# Altium integrated library Vishay Sprague Tantalum Radial-Lead Capacitor.IntLib: 103 symbols (part 1 of 2)
Pins are listed as number, name and electrical type; pins without a type are passive.

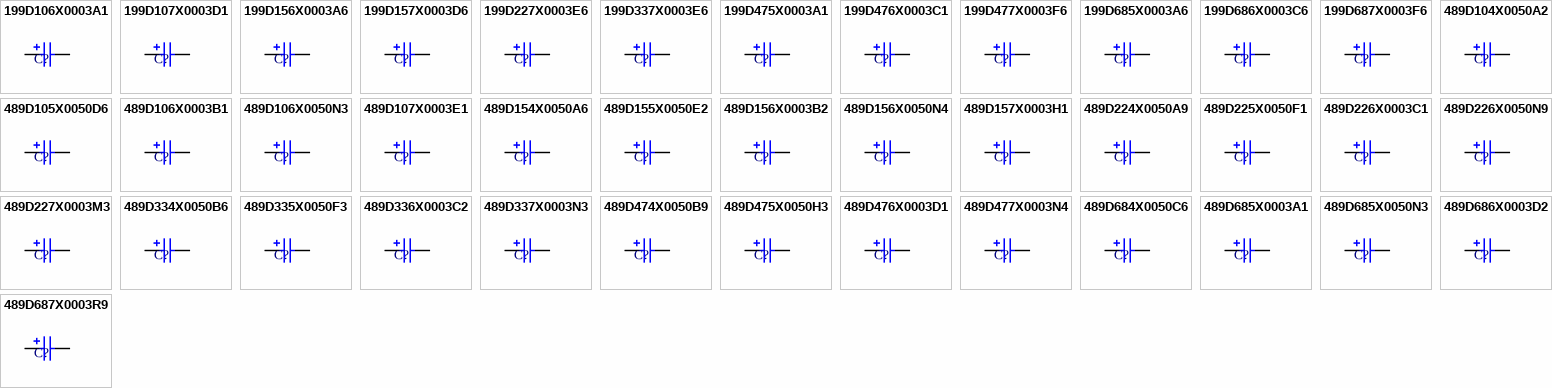
[diagram p0: symbols 199D106X0003A1 to 489D687X0003R9]

## 199D106X0003A1
designator C?
Resin-Coated, Radial-Lead, Solid-Electrolyte Tantalex Capacitor: 10uF, 20% Tolerance, 3 WVDC @ +85°C, SURGE = 3.6V; Note: See Data Sheet for full range of components; Published: 19-Mar-2004; DatasheetDocument: 21-Mar-2002; PackageReference: 199D-A1; Publisher: Altium Limited; ComponentLink1Description: Manufacturer Link; ComponentLink1URL: http://www.vishay.com/; ComponentLink2Description: Datasheet; ComponentLink2URL: http://www.vishay.com/docs/40020/199d.pdf; Value: 10uF
footprint 199D-A1 (Capacitor, Tantalum Bead; Body 4.4 x 7.11 mm (Dia.xH max); Pin Spacing 2.5 mm (typ))
simulation model CAP (Capacitor)
signal-integrity model 199D106X0003A1
pins: 1, 2
1 alternate drawing of the same symbol

## 199D107X0003D1
designator C?
Resin-Coated, Radial-Lead, Solid-Electrolyte Tantalex Capacitor: 100uF, 20% Tolerance, 3 WVDC @ +85°C, SURGE = 3.6V; Note: See Data Sheet for full range of components; Published: 19-Mar-2004; DatasheetDocument: 21-Mar-2002; PackageReference: 199D-D1; Publisher: Altium Limited; ComponentLink1Description: Manufacturer Link; ComponentLink1URL: http://www.vishay.com/; ComponentLink2Description: Datasheet; ComponentLink2URL: http://www.vishay.com/docs/40020/199d.pdf; Value: 100uF
footprint 199D-D1 (Capacitor, Tantalum Bead; Body 6 x 10.16 mm (Dia.xH max); Pin Spacing 2.5 mm (typ))
simulation model CAP (Capacitor)
signal-integrity model 199D107X0003D1
pins: 1, 2
1 alternate drawing of the same symbol

## 199D156X0003A6
designator C?
Resin-Coated, Radial-Lead, Solid-Electrolyte Tantalex Capacitor: 15uF, 20% Tolerance, 3 WVDC @ +85°C, SURGE = 3.6V; Note: See Data Sheet for full range of components; Published: 19-Mar-2004; DatasheetDocument: 21-Mar-2002; PackageReference: 199D-A6; Publisher: Altium Limited; ComponentLink1Description: Manufacturer Link; ComponentLink1URL: http://www.vishay.com/; ComponentLink2Description: Datasheet; ComponentLink2URL: http://www.vishay.com/docs/40020/199d.pdf; Value: 15uF
footprint 199D-A6 (Capacitor, Tantalum Bead; Body 4.4 x 8.64 mm (Dia.xH max); Pin Spacing 5.1 mm (typ))
simulation model CAP (Capacitor)
signal-integrity model 199D156X0003A6
pins: 1, 2
1 alternate drawing of the same symbol

## 199D157X0003D6
designator C?
Resin-Coated, Radial-Lead, Solid-Electrolyte Tantalex Capacitor: 150uF, 20% Tolerance, 3 WVDC @ +85°C, SURGE = 3.6V; Note: See Data Sheet for full range of components; Published: 19-Mar-2004; DatasheetDocument: 21-Mar-2002; PackageReference: 199D-D6; Publisher: Altium Limited; ComponentLink1Description: Manufacturer Link; ComponentLink1URL: http://www.vishay.com/; ComponentLink2Description: Datasheet; ComponentLink2URL: http://www.vishay.com/docs/40020/199d.pdf; Value: 150uF
footprint 199D-D6 (Capacitor, Tantalum Bead; Body 6 x 11.68 mm (Dia.xH max); Pin Spacing 5.1 mm (typ))
simulation model CAP (Capacitor)
signal-integrity model 199D157X0003D6
pins: 1, 2
1 alternate drawing of the same symbol

## 199D227X0003E6
designator C?
Resin-Coated, Radial-Lead, Solid-Electrolyte Tantalex Capacitor: 220uF, 20% Tolerance, 3 WVDC @ +85°C, SURGE = 3.6V; Note: See Data Sheet for full range of components; Published: 19-Mar-2004; DatasheetDocument: 21-Mar-2002; PackageReference: 199D-E6; Publisher: Altium Limited; ComponentLink1Description: Manufacturer Link; ComponentLink1URL: http://www.vishay.com/; ComponentLink2Description: Datasheet; ComponentLink2URL: http://www.vishay.com/docs/40020/199d.pdf; Value: 220uF
footprint 199D-E6 (Capacitor, Tantalum Bead; Body 8.6 x 14.02 mm (Dia.xH max); Pin Spacing 5.1 mm (typ))
simulation model CAP (Capacitor)
signal-integrity model 199D227X0003E6
pins: 1, 2
1 alternate drawing of the same symbol

## 199D337X0003E6
designator C?
Resin-Coated, Radial-Lead, Solid-Electrolyte Tantalex Capacitor: 330uF, 20% Tolerance, 3 WVDC @ +85°C, SURGE = 3.6V; Note: See Data Sheet for full range of components; Published: 19-Mar-2004; DatasheetDocument: 21-Mar-2002; PackageReference: 199D-E6; Publisher: Altium Limited; ComponentLink1Description: Manufacturer Link; ComponentLink1URL: http://www.vishay.com/; ComponentLink2Description: Datasheet; ComponentLink2URL: http://www.vishay.com/docs/40020/199d.pdf; Value: 330uF
footprint 199D-E6 (Capacitor, Tantalum Bead; Body 8.6 x 14.02 mm (Dia.xH max); Pin Spacing 5.1 mm (typ))
simulation model CAP (Capacitor)
signal-integrity model 199D337X0003E6
pins: 1, 2
1 alternate drawing of the same symbol

## 199D475X0003A1
designator C?
Resin-Coated, Radial-Lead, Solid-Electrolyte Tantalex Capacitor: 4.7uF, 20% Tolerance, 3 WVDC @ +85°C, SURGE = 3.6V; Note: See Data Sheet for full range of components; Published: 19-Mar-2004; DatasheetDocument: 21-Mar-2002; PackageReference: 199D-A1; Publisher: Altium Limited; ComponentLink1Description: Manufacturer Link; ComponentLink1URL: http://www.vishay.com/; ComponentLink2Description: Datasheet; ComponentLink2URL: http://www.vishay.com/docs/40020/199d.pdf; Value: 4.7uF
footprint 199D-A1 (Capacitor, Tantalum Bead; Body 4.4 x 7.11 mm (Dia.xH max); Pin Spacing 2.5 mm (typ))
simulation model CAP (Capacitor)
signal-integrity model 199D475X0003A1
pins: 1, 2
1 alternate drawing of the same symbol

## 199D476X0003C1
designator C?
Resin-Coated, Radial-Lead, Solid-Electrolyte Tantalex Capacitor: 47uF, 20% Tolerance, 3 WVDC @ +85°C, SURGE = 3.6V; Note: See Data Sheet for full range of components; Published: 19-Mar-2004; DatasheetDocument: 21-Mar-2002; PackageReference: 199D-C1; Publisher: Altium Limited; ComponentLink1Description: Manufacturer Link; ComponentLink1URL: http://www.vishay.com/; ComponentLink2Description: Datasheet; ComponentLink2URL: http://www.vishay.com/docs/40020/199d.pdf; Value: 47uF
footprint 199D-C1 (Capacitor, Tantalum Bead; Body 5.5 x 9.14 mm (Dia.xH max); Pin Spacing 2.5 mm (typ))
simulation model CAP (Capacitor)
signal-integrity model 199D476X0003C1
pins: 1, 2
1 alternate drawing of the same symbol

## 199D477X0003F6
designator C?
Resin-Coated, Radial-Lead, Solid-Electrolyte Tantalex Capacitor: 470uF, 20% Tolerance, 3 WVDC @ +85°C, SURGE = 3.6V; Note: See Data Sheet for full range of components; Published: 19-Mar-2004; DatasheetDocument: 21-Mar-2002; PackageReference: 199D-F6; Publisher: Altium Limited; ComponentLink1Description: Manufacturer Link; ComponentLink1URL: http://www.vishay.com/; ComponentLink2Description: Datasheet; ComponentLink2URL: http://www.vishay.com/docs/40020/199d.pdf; Value: 470uF
footprint 199D-F6 (Capacitor, Tantalum Bead; Body 9.6 x 18.03 mm (Dia.xH max); Pin Spacing 5.1 mm (typ))
simulation model CAP (Capacitor)
signal-integrity model 199D477X0003F6
pins: 1, 2
1 alternate drawing of the same symbol

## 199D685X0003A6
designator C?
Resin-Coated, Radial-Lead, Solid-Electrolyte Tantalex Capacitor: 6.8uF, 20% Tolerance, 3 WVDC @ +85°C, SURGE = 3.6V; Note: See Data Sheet for full range of components; Published: 19-Mar-2004; DatasheetDocument: 21-Mar-2002; PackageReference: 199D-A6; Publisher: Altium Limited; ComponentLink1Description: Manufacturer Link; ComponentLink1URL: http://www.vishay.com/; ComponentLink2Description: Datasheet; ComponentLink2URL: http://www.vishay.com/docs/40020/199d.pdf; Value: 6.8uF
footprint 199D-A6 (Capacitor, Tantalum Bead; Body 4.4 x 8.64 mm (Dia.xH max); Pin Spacing 5.1 mm (typ))
simulation model CAP (Capacitor)
signal-integrity model 199D685X0003A6
pins: 1, 2
1 alternate drawing of the same symbol

## 199D686X0003C6
designator C?
Resin-Coated, Radial-Lead, Solid-Electrolyte Tantalex Capacitor: 68uF, 20% Tolerance, 3 WVDC @ +85°C, SURGE = 3.6V; Note: See Data Sheet for full range of components; Published: 19-Mar-2004; DatasheetDocument: 21-Mar-2002; PackageReference: 199D-C6; Publisher: Altium Limited; ComponentLink1Description: Manufacturer Link; ComponentLink1URL: http://www.vishay.com/; ComponentLink2Description: Datasheet; ComponentLink2URL: http://www.vishay.com/docs/40020/199d.pdf; Value: 68uF
footprint 199D-C6 (Capacitor, Tantalum Bead; Body 5.5 x 10.67 mm (Dia.xH max); Pin Spacing 5.1 mm (typ))
simulation model CAP (Capacitor)
signal-integrity model 199D686X0003C6
pins: 1, 2
1 alternate drawing of the same symbol

## 199D687X0003F6
designator C?
Resin-Coated, Radial-Lead, Solid-Electrolyte Tantalex Capacitor: 680uF, 20% Tolerance, 3 WVDC @ +85°C, SURGE = 3.6V; Note: See Data Sheet for full range of components; Published: 19-Mar-2004; DatasheetDocument: 21-Mar-2002; PackageReference: 199D-F6; Publisher: Altium Limited; ComponentLink1Description: Manufacturer Link; ComponentLink1URL: http://www.vishay.com/; ComponentLink2Description: Datasheet; ComponentLink2URL: http://www.vishay.com/docs/40020/199d.pdf; Value: 680uF
footprint 199D-F6 (Capacitor, Tantalum Bead; Body 9.6 x 18.03 mm (Dia.xH max); Pin Spacing 5.1 mm (typ))
simulation model CAP (Capacitor)
signal-integrity model 199D687X0003F6
pins: 1, 2
1 alternate drawing of the same symbol

## 489D104X0050A2
designator C?
Resin-Coated, Radial-Lead Solid Tantalum Capacitor: 0.1uF, 20% Tolerance, UR = 50 Volt @ + 85 °C, Surge = 65V; Note: See Data Sheet for full range of components; Published: 19-Mar-2004; DatasheetDocument: 02-Apr-2002; PackageReference: 489D-A2; Publisher: Altium Limited; ComponentLink1Description: Manufacturer Link; ComponentLink1URL: http://www.vishay.com/; ComponentLink2Description: Datasheet; ComponentLink2URL: http://www.vishay.com/docs/42070/489d.pdf; Value: 0.1uF
footprint 489D-A2 (Capacitor, Tantalum Bead; Body 3.7 x 7 mm (Dia.xH max); Pin Spacing 2.5 mm (typ))
simulation model CAP (Capacitor)
signal-integrity model 489D104X0050A3
pins: 1, 2
1 alternate drawing of the same symbol

## 489D105X0050D6
designator C?
Resin-Coated, Radial-Lead Solid Tantalum Capacitor: 1.0uF, 20% Tolerance, UR = 50 Volt @ + 85 °C, Surge = 65V; Note: See Data Sheet for full range of components; Published: 19-Mar-2004; DatasheetDocument: 02-Apr-2002; PackageReference: 489D-D6; Publisher: Altium Limited; ComponentLink1Description: Manufacturer Link; ComponentLink1URL: http://www.vishay.com/; ComponentLink2Description: Datasheet; ComponentLink2URL: http://www.vishay.com/docs/42070/489d.pdf; Value: 1.0uF
footprint 489D-D6 (Capacitor, Tantalum Bead; Body 5 x 11.5 mm (Dia.xH max); Pin Spacing 5.0 mm (typ))
simulation model CAP (Capacitor)
signal-integrity model 489D105X0050D1
pins: 1, 2
1 alternate drawing of the same symbol

## 489D106X0003B1
designator C?
Resin-Coated, Radial-Lead Solid Tantalum Capacitor: 10uF, 20% Tolerance, UR = 3 Volt @ + 85 °C, Surge = 4V; Note: See Data Sheet for full range of components; Published: 19-Mar-2004; DatasheetDocument: 02-Apr-2002; PackageReference: 489D-B1; Publisher: Altium Limited; ComponentLink1Description: Manufacturer Link; ComponentLink1URL: http://www.vishay.com/; ComponentLink2Description: Datasheet; ComponentLink2URL: http://www.vishay.com/docs/42070/489d.pdf; Value: 10uF
footprint 489D-B1 (Capacitor, Tantalum Bead; Body 4 x 7.5 mm (Dia.xH max); Pin Spacing 2.5 mm (typ))
simulation model CAP (Capacitor)
signal-integrity model 489D106X0003B1
pins: 1, 2
1 alternate drawing of the same symbol

## 489D106X0050N3
designator C?
Resin-Coated, Radial-Lead Solid Tantalum Capacitor: 10uF, 20% Tolerance, UR = 50 Volt @ + 85 °C, Surge = 65V; Note: See Data Sheet for full range of components; Published: 19-Mar-2004; DatasheetDocument: 02-Apr-2002; PackageReference: 489D-N3; Publisher: Altium Limited; ComponentLink1Description: Manufacturer Link; ComponentLink1URL: http://www.vishay.com/; ComponentLink2Description: Datasheet; ComponentLink2URL: http://www.vishay.com/docs/42070/489d.pdf; Value: 10uF
footprint 489D-N3 (Capacitor, Tantalum Bead; Body 11 x 16 mm (Dia.xH max); Pin Spacing 5.0 mm (typ))
simulation model CAP (Capacitor)
signal-integrity model 489D106X0050N3
pins: 1, 2
1 alternate drawing of the same symbol

## 489D107X0003E1
designator C?
Resin-Coated, Radial-Lead Solid Tantalum Capacitor: 100uF, 20% Tolerance, UR = 3 Volt @ + 85 °C, Surge = 4V; Note: See Data Sheet for full range of components; Published: 19-Mar-2004; DatasheetDocument: 02-Apr-2002; PackageReference: 489D-E1; Publisher: Altium Limited; ComponentLink1Description: Manufacturer Link; ComponentLink1URL: http://www.vishay.com/; ComponentLink2Description: Datasheet; ComponentLink2URL: http://www.vishay.com/docs/42070/489d.pdf; Value: 100uF
footprint 489D-E1 (Capacitor, Tantalum Bead; Body 5.5 x 10 mm (Dia.xH max); Pin Spacing 2.5 mm (typ))
simulation model CAP (Capacitor)
signal-integrity model 489D107X0003E1
pins: 1, 2
1 alternate drawing of the same symbol

## 489D154X0050A6
designator C?
Resin-Coated, Radial-Lead Solid Tantalum Capacitor: 0.15uF, 20% Tolerance, UR = 50 Volt @ + 85 °C, Surge = 65V; Note: See Data Sheet for full range of components; Published: 19-Mar-2004; DatasheetDocument: 02-Apr-2002; PackageReference: 489D-A6; Publisher: Altium Limited; ComponentLink1Description: Manufacturer Link; ComponentLink1URL: http://www.vishay.com/; ComponentLink2Description: Datasheet; ComponentLink2URL: http://www.vishay.com/docs/42070/489d.pdf; Value: 0.15uF
footprint 489D-A6 (Capacitor, Tantalum Bead; Body 3.7 x 9.5 mm (Dia.xH max); Pin Spacing 5.0 mm (typ))
simulation model CAP (Capacitor)
signal-integrity model 489D154X0050A1
pins: 1, 2
1 alternate drawing of the same symbol

## 489D155X0050E2
designator C?
Resin-Coated, Radial-Lead Solid Tantalum Capacitor: 1.5uF, 20% Tolerance, UR = 50 Volt @ + 85 °C, Surge = 65V; Note: See Data Sheet for full range of components; Published: 19-Mar-2004; DatasheetDocument: 02-Apr-2002; PackageReference: 489D-E2; Publisher: Altium Limited; ComponentLink1Description: Manufacturer Link; ComponentLink1URL: http://www.vishay.com/; ComponentLink2Description: Datasheet; ComponentLink2URL: http://www.vishay.com/docs/42070/489d.pdf; Value: 1.5uF
footprint 489D-E2 (Capacitor, Tantalum Bead; Body 5.5 x 10 mm (Dia.xH max); Pin Spacing 2.5 mm (typ))
simulation model CAP (Capacitor)
signal-integrity model 489D155X0050E3
pins: 1, 2
1 alternate drawing of the same symbol

## 489D156X0003B2
designator C?
Resin-Coated, Radial-Lead Solid Tantalum Capacitor: 15uF, 20% Tolerance, UR = 3 Volt @ + 85 °C, Surge = 4V; Note: See Data Sheet for full range of components; Published: 19-Mar-2004; DatasheetDocument: 02-Apr-2002; PackageReference: 489D-B2; Publisher: Altium Limited; ComponentLink1Description: Manufacturer Link; ComponentLink1URL: http://www.vishay.com/; ComponentLink2Description: Datasheet; ComponentLink2URL: http://www.vishay.com/docs/42070/489d.pdf; Value: 15uF
footprint 489D-B2 (Capacitor, Tantalum Bead; Body 4 x 7.5 mm (Dia.xH max); Pin Spacing 2.5 mm (typ))
simulation model CAP (Capacitor)
signal-integrity model 489D156X0003B2
pins: 1, 2
1 alternate drawing of the same symbol

## 489D156X0050N4
designator C?
Resin-Coated, Radial-Lead Solid Tantalum Capacitor: 15uF, 20% Tolerance, UR = 50 Volt @ + 85 °C, Surge = 65V; Note: See Data Sheet for full range of components; Published: 19-Mar-2004; DatasheetDocument: 02-Apr-2002; PackageReference: 489D-N4; Publisher: Altium Limited; ComponentLink1Description: Manufacturer Link; ComponentLink1URL: http://www.vishay.com/; ComponentLink2Description: Datasheet; ComponentLink2URL: http://www.vishay.com/docs/42070/489d.pdf; Value: 15uF
footprint 489D-N4 (Capacitor, Tantalum Bead; Body 11 x 16 mm (Dia.xH max); Pin Spacing 5.0 mm (typ))
simulation model CAP (Capacitor)
signal-integrity model 489D156X0050N4
pins: 1, 2
1 alternate drawing of the same symbol

## 489D157X0003H1
designator C?
Resin-Coated, Radial-Lead Solid Tantalum Capacitor: 150uF, 20% Tolerance, UR = 3 Volt @ + 85 °C, Surge = 4V; Note: See Data Sheet for full range of components; Published: 19-Mar-2004; DatasheetDocument: 02-Apr-2002; PackageReference: 489D-H1; Publisher: Altium Limited; ComponentLink1Description: Manufacturer Link; ComponentLink1URL: http://www.vishay.com/; ComponentLink2Description: Datasheet; ComponentLink2URL: http://www.vishay.com/docs/42070/489d.pdf; Value: 150uF
footprint 489D-H1 (Capacitor, Tantalum Bead; Body 6.5 x 12 mm (Dia.xH max); Pin Spacing 2.5 mm (typ))
simulation model CAP (Capacitor)
signal-integrity model 489D157X0003H1
pins: 1, 2
1 alternate drawing of the same symbol

## 489D224X0050A9
designator C?
Resin-Coated, Radial-Lead Solid Tantalum Capacitor: 0.22uF, 20% Tolerance, UR = 50 Volt @ + 85 °C, Surge = 65V; Note: See Data Sheet for full range of components; Published: 19-Mar-2004; DatasheetDocument: 02-Apr-2002; PackageReference: 489D-A9; Publisher: Altium Limited; ComponentLink1Description: Manufacturer Link; ComponentLink1URL: http://www.vishay.com/; ComponentLink2Description: Datasheet; ComponentLink2URL: http://www.vishay.com/docs/42070/489d.pdf; Value: 0.22uF
footprint 489D-A9 (Capacitor, Tantalum Bead; Body 3.7 x 10 mm (Dia.xH max); Pin Spacing 5.0 mm (typ))
simulation model CAP (Capacitor)
signal-integrity model 489D224X0050A2
pins: 1, 2
1 alternate drawing of the same symbol

## 489D225X0050F1
designator C?
Resin-Coated, Radial-Lead Solid Tantalum Capacitor: 2.2uF, 20% Tolerance, UR = 50 Volt @ + 85 °C, Surge = 65V; Note: See Data Sheet for full range of components; Published: 19-Mar-2004; DatasheetDocument: 02-Apr-2002; PackageReference: 489D-F1; Publisher: Altium Limited; ComponentLink1Description: Manufacturer Link; ComponentLink1URL: http://www.vishay.com/; ComponentLink2Description: Datasheet; ComponentLink2URL: http://www.vishay.com/docs/42070/489d.pdf; Value: 2.2uF
footprint 489D-F1 (Capacitor, Tantalum Bead; Body 6 x 11 mm (Dia.xH max); Pin Spacing 2.5 mm (typ))
simulation model CAP (Capacitor)
signal-integrity model 489D225X0050F1
pins: 1, 2
1 alternate drawing of the same symbol

## 489D226X0003C1
designator C?
Resin-Coated, Radial-Lead Solid Tantalum Capacitor: 22uF, 20% Tolerance, UR = 3 Volt @ + 85 °C, Surge = 4V; Note: See Data Sheet for full range of components; Published: 19-Mar-2004; DatasheetDocument: 02-Apr-2002; PackageReference: 489D-C1; Publisher: Altium Limited; ComponentLink1Description: Manufacturer Link; ComponentLink1URL: http://www.vishay.com/; ComponentLink2Description: Datasheet; ComponentLink2URL: http://www.vishay.com/docs/42070/489d.pdf; Value: 22uF
footprint 489D-C1 (Capacitor, Tantalum Bead; Body 4.5 x 8 mm (Dia.xH max); Pin Spacing 2.5 mm (typ))
simulation model CAP (Capacitor)
signal-integrity model 489D226X0003C1
pins: 1, 2
1 alternate drawing of the same symbol

## 489D226X0050N9
designator C?
Resin-Coated, Radial-Lead Solid Tantalum Capacitor: 22uF, 20% Tolerance, UR = 50 Volt @ + 85 °C, Surge = 65V; Note: See Data Sheet for full range of components; Published: 19-Mar-2004; DatasheetDocument: 02-Apr-2002; PackageReference: 489D-N9; Publisher: Altium Limited; ComponentLink1Description: Manufacturer Link; ComponentLink1URL: http://www.vishay.com/; ComponentLink2Description: Datasheet; ComponentLink2URL: http://www.vishay.com/docs/42070/489d.pdf; Value: 22uF
footprint 489D-N9 (Capacitor, Tantalum Bead; Body 11 x 19 mm (Dia.xH max); Pin Spacing 5.0 mm (typ))
simulation model CAP (Capacitor)
signal-integrity model 489D226X0050N6
pins: 1, 2
1 alternate drawing of the same symbol

## 489D227X0003M3
designator C?
Resin-Coated, Radial-Lead Solid Tantalum Capacitor: 220uF, 20% Tolerance, UR = 3 Volt @ + 85 °C, Surge = 4V; Note: See Data Sheet for full range of components; Published: 19-Mar-2004; DatasheetDocument: 02-Apr-2002; PackageReference: 489D-M3; Publisher: Altium Limited; ComponentLink1Description: Manufacturer Link; ComponentLink1URL: http://www.vishay.com/; ComponentLink2Description: Datasheet; ComponentLink2URL: http://www.vishay.com/docs/42070/489d.pdf; Value: 220uF
footprint 489D-M3 (Capacitor, Tantalum Bead; Body 10 x 14.5 mm (Dia.xH max); Pin Spacing 5.0 mm (typ))
simulation model CAP (Capacitor)
signal-integrity model 489D227X0003M3
pins: 1, 2
1 alternate drawing of the same symbol

## 489D334X0050B6
designator C?
Resin-Coated, Radial-Lead Solid Tantalum Capacitor: 0.33uF, 20% Tolerance, UR = 50 Volt @ + 85 °C, Surge = 65V; Note: See Data Sheet for full range of components; Published: 19-Mar-2004; DatasheetDocument: 02-Apr-2002; PackageReference: 489D-B6; Publisher: Altium Limited; ComponentLink1Description: Manufacturer Link; ComponentLink1URL: http://www.vishay.com/; ComponentLink2Description: Datasheet; ComponentLink2URL: http://www.vishay.com/docs/42070/489d.pdf; Value: 0.33uF
footprint 489D-B6 (Capacitor, Tantalum Bead; Body 4 x 10 mm (Dia.xH max); Pin Spacing 5.0 mm (typ))
simulation model CAP (Capacitor)
signal-integrity model 489D334X0050B3
pins: 1, 2
1 alternate drawing of the same symbol

## 489D335X0050F3
designator C?
Resin-Coated, Radial-Lead Solid Tantalum Capacitor: 3.3uF, 20% Tolerance, UR = 50 Volt @ + 85 °C, Surge = 65V; Note: See Data Sheet for full range of components; Published: 19-Mar-2004; DatasheetDocument: 02-Apr-2002; PackageReference: 489D-F3; Publisher: Altium Limited; ComponentLink1Description: Manufacturer Link; ComponentLink1URL: http://www.vishay.com/; ComponentLink2Description: Datasheet; ComponentLink2URL: http://www.vishay.com/docs/42070/489d.pdf; Value: 3.3uF
footprint 489D-F3 (Capacitor, Tantalum Bead; Body 6 x 11 mm (Dia.xH max); Pin Spacing 2.5 mm (typ))
simulation model CAP (Capacitor)
signal-integrity model 489D335X0050F3
pins: 1, 2
1 alternate drawing of the same symbol

## 489D336X0003C2
designator C?
Resin-Coated, Radial-Lead Solid Tantalum Capacitor: 33uF, 20% Tolerance, UR = 3 Volt @ + 85 °C, Surge = 4V; Note: See Data Sheet for full range of components; Published: 19-Mar-2004; DatasheetDocument: 02-Apr-2002; PackageReference: 489D-C2; Publisher: Altium Limited; ComponentLink1Description: Manufacturer Link; ComponentLink1URL: http://www.vishay.com/; ComponentLink2Description: Datasheet; ComponentLink2URL: http://www.vishay.com/docs/42070/489d.pdf; Value: 33uF
footprint 489D-C2 (Capacitor, Tantalum Bead; Body 4.5 x 8 mm (Dia.xH max); Pin Spacing 2.5 mm (typ))
simulation model CAP (Capacitor)
signal-integrity model 489D336X0003C2
pins: 1, 2
1 alternate drawing of the same symbol

## 489D337X0003N3
designator C?
Resin-Coated, Radial-Lead Solid Tantalum Capacitor: 330uF, 20% Tolerance, UR = 3 Volt @ + 85 °C, Surge = 4V; Note: See Data Sheet for full range of components; Published: 19-Mar-2004; DatasheetDocument: 02-Apr-2002; PackageReference: 489D-N3; Publisher: Altium Limited; ComponentLink1Description: Manufacturer Link; ComponentLink1URL: http://www.vishay.com/; ComponentLink2Description: Datasheet; ComponentLink2URL: http://www.vishay.com/docs/42070/489d.pdf; Value: 330uF
footprint 489D-N3 (Capacitor, Tantalum Bead; Body 11 x 16 mm (Dia.xH max); Pin Spacing 5.0 mm (typ))
simulation model CAP (Capacitor)
signal-integrity model 489D337X0003N3
pins: 1, 2
1 alternate drawing of the same symbol

## 489D474X0050B9
designator C?
Resin-Coated, Radial-Lead Solid Tantalum Capacitor: 0.47uF, 20% Tolerance, UR = 50 Volt @ + 85 °C, Surge = 65V; Note: See Data Sheet for full range of components; Published: 19-Mar-2004; DatasheetDocument: 02-Apr-2002; PackageReference: 489D-B9; Publisher: Altium Limited; ComponentLink1Description: Manufacturer Link; ComponentLink1URL: http://www.vishay.com/; ComponentLink2Description: Datasheet; ComponentLink2URL: http://www.vishay.com/docs/42070/489d.pdf; Value: 0.47uF
footprint 489D-B9 (Capacitor, Tantalum Bead; Body 4 x 10.5 mm (Dia.xH max); Pin Spacing 5.0 mm (typ))
simulation model CAP (Capacitor)
signal-integrity model 489D474X0050B4
pins: 1, 2
1 alternate drawing of the same symbol

## 489D475X0050H3
designator C?
Resin-Coated, Radial-Lead Solid Tantalum Capacitor: 4.7uF, 20% Tolerance, UR = 50 Volt @ + 85 °C, Surge = 65V; Note: See Data Sheet for full range of components; Published: 19-Mar-2004; DatasheetDocument: 02-Apr-2002; PackageReference: 489D-H3; Publisher: Altium Limited; ComponentLink1Description: Manufacturer Link; ComponentLink1URL: http://www.vishay.com/; ComponentLink2Description: Datasheet; ComponentLink2URL: http://www.vishay.com/docs/42070/489d.pdf; Value: 4.7uF
footprint 489D-H3 (Capacitor, Tantalum Bead; Body 6.5 x 12 mm (Dia.xH max); Pin Spacing 2.5 mm (typ))
simulation model CAP (Capacitor)
signal-integrity model 489D475X0050H3
pins: 1, 2
1 alternate drawing of the same symbol

## 489D476X0003D1
designator C?
Resin-Coated, Radial-Lead Solid Tantalum Capacitor: 47uF, 20% Tolerance, UR = 3 Volt @ + 85 °C, Surge = 4V; Note: See Data Sheet for full range of components; Published: 19-Mar-2004; DatasheetDocument: 02-Apr-2002; PackageReference: 489D-D1; Publisher: Altium Limited; ComponentLink1Description: Manufacturer Link; ComponentLink1URL: http://www.vishay.com/; ComponentLink2Description: Datasheet; ComponentLink2URL: http://www.vishay.com/docs/42070/489d.pdf; Value: 47uF
footprint 489D-D1 (Capacitor, Tantalum Bead; Body 5 x 9 mm (Dia.xH max); Pin Spacing 2.5 mm (typ))
simulation model CAP (Capacitor)
signal-integrity model 489D476X0003D2
pins: 1, 2
1 alternate drawing of the same symbol

## 489D477X0003N4
designator C?
Resin-Coated, Radial-Lead Solid Tantalum Capacitor: 470uF, 20% Tolerance, UR = 3 Volt @ + 85 °C, Surge = 4V; Note: See Data Sheet for full range of components; Published: 19-Mar-2004; DatasheetDocument: 02-Apr-2002; PackageReference: 489D-N4; Publisher: Altium Limited; ComponentLink1Description: Manufacturer Link; ComponentLink1URL: http://www.vishay.com/; ComponentLink2Description: Datasheet; ComponentLink2URL: http://www.vishay.com/docs/42070/489d.pdf; Value: 470uF
footprint 489D-N4 (Capacitor, Tantalum Bead; Body 11 x 16 mm (Dia.xH max); Pin Spacing 5.0 mm (typ))
simulation model CAP (Capacitor)
signal-integrity model 489D477X0003N4
pins: 1, 2
1 alternate drawing of the same symbol

## 489D684X0050C6
designator C?
Resin-Coated, Radial-Lead Solid Tantalum Capacitor: 0.68uF, 20% Tolerance, UR = 50 Volt @ + 85 °C, Surge = 65V; Note: See Data Sheet for full range of components; Published: 19-Mar-2004; DatasheetDocument: 02-Apr-2002; PackageReference: 489D-C6; Publisher: Altium Limited; ComponentLink1Description: Manufacturer Link; ComponentLink1URL: http://www.vishay.com/; ComponentLink2Description: Datasheet; ComponentLink2URL: http://www.vishay.com/docs/42070/489d.pdf; Value: 0.68uF
footprint 489D-C6 (Capacitor, Tantalum Bead; Body 4.5 x 10.5 mm (Dia.xH max); Pin Spacing 5.0 mm (typ))
simulation model CAP (Capacitor)
signal-integrity model 489D684X0050C3
pins: 1, 2
1 alternate drawing of the same symbol

## 489D685X0003A1
designator C?
Resin-Coated, Radial-Lead Solid Tantalum Capacitor: 6.8uF, 20% Tolerance, UR = 3 Volt @ + 85 °C, Surge = 4V; Note: See Data Sheet for full range of components; Published: 19-Mar-2004; DatasheetDocument: 02-Apr-2002; PackageReference: 489D-A1; Publisher: Altium Limited; ComponentLink1Description: Manufacturer Link; ComponentLink1URL: http://www.vishay.com/; ComponentLink2Description: Datasheet; ComponentLink2URL: http://www.vishay.com/docs/42070/489d.pdf; Value: 6.8uF
footprint 489D-A1 (Capacitor, Tantalum Bead; Body 3.7 x 7 mm (Dia.xH max); Pin Spacing 2.5 mm (typ))
simulation model CAP (Capacitor)
signal-integrity model 489D685X0003A1
pins: 1, 2
1 alternate drawing of the same symbol

## 489D685X0050N3
designator C?
Resin-Coated, Radial-Lead Solid Tantalum Capacitor: 6.8uF, 20% Tolerance, UR = 50 Volt @ + 85 °C, Surge = 65V; Note: See Data Sheet for full range of components; Published: 19-Mar-2004; DatasheetDocument: 02-Apr-2002; PackageReference: 489D-N3; Publisher: Altium Limited; ComponentLink1Description: Manufacturer Link; ComponentLink1URL: http://www.vishay.com/; ComponentLink2Description: Datasheet; ComponentLink2URL: http://www.vishay.com/docs/42070/489d.pdf; Value: 6.8uF
footprint 489D-N3 (Capacitor, Tantalum Bead; Body 11 x 16 mm (Dia.xH max); Pin Spacing 5.0 mm (typ))
simulation model CAP (Capacitor)
signal-integrity model 489D685X0050N1
pins: 1, 2
1 alternate drawing of the same symbol

## 489D686X0003D2
designator C?
Resin-Coated, Radial-Lead Solid Tantalum Capacitor: 68uF, 20% Tolerance, UR = 3 Volt @ + 85 °C, Surge = 4V; Note: See Data Sheet for full range of components; Published: 19-Mar-2004; DatasheetDocument: 02-Apr-2002; PackageReference: 489D-D2; Publisher: Altium Limited; ComponentLink1Description: Manufacturer Link; ComponentLink1URL: http://www.vishay.com/; ComponentLink2Description: Datasheet; ComponentLink2URL: http://www.vishay.com/docs/42070/489d.pdf; Value: 68uF
footprint 489D-D2 (Capacitor, Tantalum Bead; Body 5 x 9 mm (Dia.xH max); Pin Spacing 2.5 mm (typ))
simulation model CAP (Capacitor)
signal-integrity model 489D686X0003D3
pins: 1, 2
1 alternate drawing of the same symbol

## 489D687X0003R9
designator C?
Resin-Coated, Radial-Lead Solid Tantalum Capacitor: 680uF, 20% Tolerance, UR = 3 Volt @ + 85 °C, Surge = 4V; Note: See Data Sheet for full range of components; Published: 19-Mar-2004; DatasheetDocument: 02-Apr-2002; PackageReference: 489D-R9; Publisher: Altium Limited; ComponentLink1Description: Manufacturer Link; ComponentLink1URL: http://www.vishay.com/; ComponentLink2Description: Datasheet; ComponentLink2URL: http://www.vishay.com/docs/42070/489d.pdf; Value: 680uF
footprint 489D-R9 (Capacitor, Tantalum Bead; Body 12 x 22 mm (Dia.xH max); Pin Spacing 5.0 mm (typ))
simulation model CAP (Capacitor)
signal-integrity model 489D687X0003R6
pins: 1, 2
1 alternate drawing of the same symbol

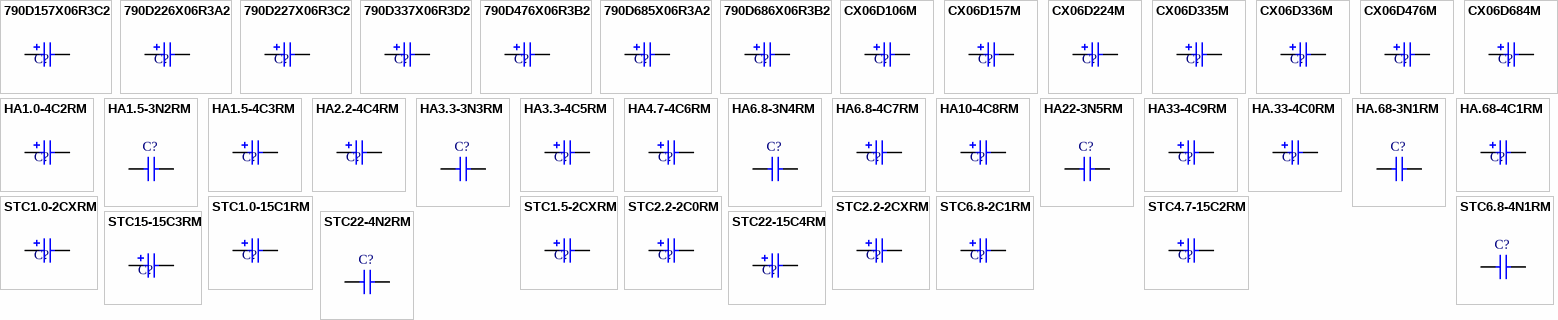
[diagram p1: symbols 790D157X06R3C2 to STC22-15C4RM]

## 790D157X06R3C2
designator C?
Resin-Molded, Radial-Lead Solid Tantalum Capacitor: 150uF, 20% Tolerance, UR = 6.30 Volt @ +85°C, Surge = 8V; Note: See Data Sheet for full range of components; Published: 19-Mar-2004; DatasheetDocument: 26-Mar-2002; PackageReference: 790D-C; Publisher: Altium Limited; ComponentLink1Description: Manufacturer Link; ComponentLink1URL: http://www.vishay.com/; ComponentLink2Description: Datasheet; ComponentLink2URL: http://www.vishay.com/docs/42072/790d.pdf; Value: 150uF
footprint 790D-C (Capacitor, Radial, Tantalum; Body 12.3 x 7.3 x 10.5 mm (WxTxH max); Pin Spacing 10.16 mm (typ))
simulation model CAP (Capacitor)
signal-integrity model 790D157X06R3C2
pins: 1, 2
1 alternate drawing of the same symbol

## 790D226X06R3A2
designator C?
Resin-Molded, Radial-Lead Solid Tantalum Capacitor: 22uF, 20% Tolerance, UR = 6.30 Volt @ +85°C, Surge = 8V; Note: See Data Sheet for full range of components; Published: 19-Mar-2004; DatasheetDocument: 26-Mar-2002; PackageReference: 790D-A; Publisher: Altium Limited; ComponentLink1Description: Manufacturer Link; ComponentLink1URL: http://www.vishay.com/; ComponentLink2Description: Datasheet; ComponentLink2URL: http://www.vishay.com/docs/42072/790d.pdf; Value: 22uF
footprint 790D-A (Capacitor, Radial, Tantalum; Body 4.7 x 4.2 x 7.3 mm (WxTxH max); Pin Spacing 2.54 mm (typ))
simulation model CAP (Capacitor)
signal-integrity model 790D226X06R3A2
pins: 1, 2
1 alternate drawing of the same symbol

## 790D227X06R3C2
designator C?
Resin-Molded, Radial-Lead Solid Tantalum Capacitor: 220uF, 20% Tolerance, UR = 6.30 Volt @ +85°C, Surge = 8V; Note: See Data Sheet for full range of components; Published: 19-Mar-2004; DatasheetDocument: 26-Mar-2002; PackageReference: 790D-C; Publisher: Altium Limited; ComponentLink1Description: Manufacturer Link; ComponentLink1URL: http://www.vishay.com/; ComponentLink2Description: Datasheet; ComponentLink2URL: http://www.vishay.com/docs/42072/790d.pdf; Value: 220uF
footprint 790D-C (Capacitor, Radial, Tantalum; Body 12.3 x 7.3 x 10.5 mm (WxTxH max); Pin Spacing 10.16 mm (typ))
simulation model CAP (Capacitor)
signal-integrity model 790D227X06R3C2
pins: 1, 2
1 alternate drawing of the same symbol

## 790D337X06R3D2
designator C?
Resin-Molded, Radial-Lead Solid Tantalum Capacitor: 330uF, 20% Tolerance, UR = 6.30 Volt @ +85°C, Surge = 8V; Note: See Data Sheet for full range of components; Published: 19-Mar-2004; DatasheetDocument: 26-Mar-2002; PackageReference: 790D-D; Publisher: Altium Limited; ComponentLink1Description: Manufacturer Link; ComponentLink1URL: http://www.vishay.com/; ComponentLink2Description: Datasheet; ComponentLink2URL: http://www.vishay.com/docs/42072/790d.pdf; Value: 330uF
footprint 790D-D (Capacitor, Radial, Tantalum; Body 12.3 x 12.3 x 10.5 mm (WxTxH max); Pin Spacing 10.16 mm (typ))
simulation model CAP (Capacitor)
signal-integrity model 790D337X06R3D2
pins: 1, 2
1 alternate drawing of the same symbol

## 790D476X06R3B2
designator C?
Resin-Molded, Radial-Lead Solid Tantalum Capacitor: 47uF, 20% Tolerance, UR = 6.30 Volt @ +85°C, Surge = 8V; Note: See Data Sheet for full range of components; Published: 19-Mar-2004; DatasheetDocument: 26-Mar-2002; PackageReference: 790D-B; Publisher: Altium Limited; ComponentLink1Description: Manufacturer Link; ComponentLink1URL: http://www.vishay.com/; ComponentLink2Description: Datasheet; ComponentLink2URL: http://www.vishay.com/docs/42072/790d.pdf; Value: 47uF
footprint 790D-B (Capacitor, Radial, Tantalum; Body 7.3 x 4.8 x 10.5 mm (WxTxH max); Pin Spacing 5.08 mm (typ))
simulation model CAP (Capacitor)
signal-integrity model 790D476X06R3B2
pins: 1, 2
1 alternate drawing of the same symbol

## 790D685X06R3A2
designator C?
Resin-Molded, Radial-Lead Solid Tantalum Capacitor: 6.8uF, 20% Tolerance, UR = 6.30 Volt @ +85°C, Surge = 8V; Note: See Data Sheet for full range of components; Published: 19-Mar-2004; DatasheetDocument: 26-Mar-2002; PackageReference: 790D-A; Publisher: Altium Limited; ComponentLink1Description: Manufacturer Link; ComponentLink1URL: http://www.vishay.com/; ComponentLink2Description: Datasheet; ComponentLink2URL: http://www.vishay.com/docs/42072/790d.pdf; Value: 6.8uF
footprint 790D-A (Capacitor, Radial, Tantalum; Body 4.7 x 4.2 x 7.3 mm (WxTxH max); Pin Spacing 2.54 mm (typ))
simulation model CAP (Capacitor)
signal-integrity model 790D685X06R3A2
pins: 1, 2
1 alternate drawing of the same symbol

## 790D686X06R3B2
designator C?
Resin-Molded, Radial-Lead Solid Tantalum Capacitor: 68uF, 20% Tolerance, UR = 6.30 Volt @ +85°C, Surge = 8V; Note: See Data Sheet for full range of components; Published: 19-Mar-2004; DatasheetDocument: 26-Mar-2002; PackageReference: 790D-B; Publisher: Altium Limited; ComponentLink1Description: Manufacturer Link; ComponentLink1URL: http://www.vishay.com/; ComponentLink2Description: Datasheet; ComponentLink2URL: http://www.vishay.com/docs/42072/790d.pdf; Value: 68uF
footprint 790D-B (Capacitor, Radial, Tantalum; Body 7.3 x 4.8 x 10.5 mm (WxTxH max); Pin Spacing 5.08 mm (typ))
simulation model CAP (Capacitor)
signal-integrity model 790D686X06R3B2
pins: 1, 2
1 alternate drawing of the same symbol

## CX06D106M
designator C?
Subminiature, Leaded Solid Tantalum Capacitor: Radial-Lead, Polarised, 10uF, 20% Tolerance, 6 WVDC @ +85°C; Note: See Data Sheet for full range of components; Published: 19-Mar-2004; DatasheetDocument: 13-Jun-2002; PackageReference: CX06-D; Publisher: Altium Limited; ComponentLink1Description: Manufacturer Link; ComponentLink1URL: http://www.vishay.com/; ComponentLink2Description: Datasheet; ComponentLink2URL: http://www.vishay.com/docs/43007/cx06.pdf; Value: 10uF
footprint CX06-D (Capacitor, Radial, Tantalum; Body 4.70 x 1.91 x 5.72 mm (WxTxH max); Pin Spacing 3.81 mm (typ))
simulation model CAP (Capacitor)
signal-integrity model CX06D106M
pins: 1, 2
1 alternate drawing of the same symbol

## CX06D157M
designator C?
Subminiature, Leaded Solid Tantalum Capacitor: Radial-Lead, Polarised, 150uF, 20% Tolerance, 6 WVDC @ +85°C; Note: See Data Sheet for full range of components; Published: 19-Mar-2004; DatasheetDocument: 13-Jun-2002; PackageReference: CX06-G; Publisher: Altium Limited; ComponentLink1Description: Manufacturer Link; ComponentLink1URL: http://www.vishay.com/; ComponentLink2Description: Datasheet; ComponentLink2URL: http://www.vishay.com/docs/43007/cx06.pdf; Value: 150uF
footprint CX06-G (Capacitor, Radial, Tantalum; Body 9.53 x 3.81 x 12.07 mm (WxTxH max); Pin Spacing 7.62 mm (typ))
simulation model CAP (Capacitor)
signal-integrity model CX06D157M
pins: 1, 2
1 alternate drawing of the same symbol

## CX06D224M
designator C?
Subminiature, Leaded Solid Tantalum Capacitor: Radial-Lead, Polarised, 0.22uF, 20% Tolerance, 6 WVDC @ +85°C; Note: See Data Sheet for full range of components; Published: 19-Mar-2004; DatasheetDocument: 13-Jun-2002; PackageReference: CX06-A; Publisher: Altium Limited; ComponentLink1Description: Manufacturer Link; ComponentLink1URL: http://www.vishay.com/; ComponentLink2Description: Datasheet; ComponentLink2URL: http://www.vishay.com/docs/43007/cx06.pdf; Value: 0.22uF
footprint CX06-A (Capacitor, Radial, Tantalum; Body 1.27 x 1.02 x 2.54 mm (WxTxH max); Pin Spacing 0.76 mm (typ))
simulation model CAP (Capacitor)
signal-integrity model CX06D224M
pins: 1, 2
1 alternate drawing of the same symbol

## CX06D335M
designator C?
Subminiature, Leaded Solid Tantalum Capacitor: Radial-Lead, Polarised, 3.3uF, 20% Tolerance, 6 WVDC @ +85°C; Note: See Data Sheet for full range of components; Published: 19-Mar-2004; DatasheetDocument: 13-Jun-2002; PackageReference: CX06-C; Publisher: Altium Limited; ComponentLink1Description: Manufacturer Link; ComponentLink1URL: http://www.vishay.com/; ComponentLink2Description: Datasheet; ComponentLink2URL: http://www.vishay.com/docs/43007/cx06.pdf; Value: 3.3uF
footprint CX06-C (Capacitor, Radial, Tantalum; Body 3.05 x 1.78 x 4.19 mm (WxTxH max); Pin Spacing 2.54 mm (typ))
simulation model CAP (Capacitor)
signal-integrity model CX06D335M
pins: 1, 2
1 alternate drawing of the same symbol

## CX06D336M
designator C?
Subminiature, Leaded Solid Tantalum Capacitor: Radial-Lead, Polarised, 33uF, 20% Tolerance, 6 WVDC @ +85°C; Note: See Data Sheet for full range of components; Published: 19-Mar-2004; DatasheetDocument: 13-Jun-2002; PackageReference: CX06-E; Publisher: Altium Limited; ComponentLink1Description: Manufacturer Link; ComponentLink1URL: http://www.vishay.com/; ComponentLink2Description: Datasheet; ComponentLink2URL: http://www.vishay.com/docs/43007/cx06.pdf; Value: 33uF
footprint CX06-E (Capacitor, Radial, Tantalum; Body 5.59 x 2.79 x 7.37 mm (WxTxH max); Pin Spacing 4.57 mm (typ))
simulation model CAP (Capacitor)
signal-integrity model CX06D336M
pins: 1, 2
1 alternate drawing of the same symbol

## CX06D476M
designator C?
Subminiature, Leaded Solid Tantalum Capacitor: Radial-Lead, Polarised, 47uF, 20% Tolerance, 6 WVDC @ +85°C; Note: See Data Sheet for full range of components; Published: 19-Mar-2004; DatasheetDocument: 13-Jun-2002; PackageReference: CX06-F; Publisher: Altium Limited; ComponentLink1Description: Manufacturer Link; ComponentLink1URL: http://www.vishay.com/; ComponentLink2Description: Datasheet; ComponentLink2URL: http://www.vishay.com/docs/43007/cx06.pdf; Value: 47uF
footprint CX06-F (Capacitor, Radial, Tantalum; Body 5.84 x 3.30 x 7.87 mm (WxTxH max); Pin Spacing 5.08 mm (typ))
simulation model CAP (Capacitor)
signal-integrity model CX06D476M
pins: 1, 2
1 alternate drawing of the same symbol

## CX06D684M
designator C?
Subminiature, Leaded Solid Tantalum Capacitor: Radial-Lead, Polarised, 0.68uF, 20% Tolerance, 6 WVDC @ +85°C; Note: See Data Sheet for full range of components; Published: 19-Mar-2004; DatasheetDocument: 13-Jun-2002; PackageReference: CX06-B; Publisher: Altium Limited; ComponentLink1Description: Manufacturer Link; ComponentLink1URL: http://www.vishay.com/; ComponentLink2Description: Datasheet; ComponentLink2URL: http://www.vishay.com/docs/43007/cx06.pdf; Value: 0.68uF
footprint CX06-B (Capacitor, Radial, Tantalum; Body 1.78 x 1.02 x 3.18 mm (WxTxH max); Pin Spacing 1.27 mm (typ))
simulation model CAP (Capacitor)
signal-integrity model CX06D684M
pins: 1, 2
1 alternate drawing of the same symbol

## HA1.0-4C2RM
designator C?
Subminiature, Leaded Solid Tantalum Capacitor: Radial-Lead, Polarised, 1.0uF, 20% Tolerance, 4 WVDC @ +85°C; Note: See Data Sheet for full range of components; Published: 19-Mar-2004; DatasheetDocument: 13-Jun-2002; PackageReference: HA-C2; Publisher: Altium Limited; ComponentLink1Description: Manufacturer Link; ComponentLink1URL: http://www.vishay.com/; ComponentLink2Description: Datasheet; ComponentLink2URL: http://www.vishay.com/docs/43003/ha.pdf; Value: 1.0uF
footprint HA-C2 (Capacitor, Radial, Tantalum; Body 1.7 x 3.18 mm (Dia.xH max); Pin Spacing 1.27 mm (typ))
simulation model CAP (Capacitor)
signal-integrity model HA1.0-4C2RM
pins: 1, 2
1 alternate drawing of the same symbol

## HA1.5-3N2RM
designator C?
Subminiature, Leaded Solid Tantalum Capacitor: Radial-Lead, Non-Polarised, 1.5uF, 20% Tolerance, 3 WVDC @ +85°C; Note: See Data Sheet for full range of components; Published: 19-Mar-2004; DatasheetDocument: 13-Jun-2002; PackageReference: HA-N2; Publisher: Altium Limited; ComponentLink1Description: Manufacturer Link; ComponentLink1URL: http://www.vishay.com/; ComponentLink2Description: Datasheet; ComponentLink2URL: http://www.vishay.com/docs/43003/ha.pdf; Value: 1.5uF
footprint HA-N2 (Capacitor, Radial, Tantalum, Non-Polarised; Body 3.05 x 1.78 x 4.06 mm (WxTxH max); Pin Spacing 2.54 mm (typ))
simulation model CAP (Capacitor)
signal-integrity model HA1.5-3N2AM
pins: 1, 2

## HA1.5-4C3RM
designator C?
Subminiature, Leaded Solid Tantalum Capacitor: Radial-Lead, Polarised, 1.5uF, 20% Tolerance, 4 WVDC @ +85°C; Note: See Data Sheet for full range of components; Published: 19-Mar-2004; DatasheetDocument: 13-Jun-2002; PackageReference: HA-C3; Publisher: Altium Limited; ComponentLink1Description: Manufacturer Link; ComponentLink1URL: http://www.vishay.com/; ComponentLink2Description: Datasheet; ComponentLink2URL: http://www.vishay.com/docs/43003/ha.pdf; Value: 1.5uF
footprint HA-C3 (Capacitor, Radial, Tantalum; Body 1.7 x 3.68 mm (Dia.xH max); Pin Spacing 1.27 mm (typ))
simulation model CAP (Capacitor)
signal-integrity model HA1.5-4C3AM
pins: 1, 2
1 alternate drawing of the same symbol

## HA2.2-4C4RM
designator C?
Subminiature, Leaded Solid Tantalum Capacitor: Radial-Lead, Polarised, 2.2uF, 20% Tolerance, 4 WVDC @ +85°C; Note: See Data Sheet for full range of components; Published: 19-Mar-2004; DatasheetDocument: 13-Jun-2002; PackageReference: HA-C4; Publisher: Altium Limited; ComponentLink1Description: Manufacturer Link; ComponentLink1URL: http://www.vishay.com/; ComponentLink2Description: Datasheet; ComponentLink2URL: http://www.vishay.com/docs/43003/ha.pdf; Value: 2.2uF
footprint HA-C4 (Capacitor, Radial, Tantalum; Body 1.78 x 4.06 mm (Dia.xH max); Pin Spacing 1.27 mm (typ))
simulation model CAP (Capacitor)
signal-integrity model HA2.2-4C4RM
pins: 1, 2
1 alternate drawing of the same symbol

## HA3.3-3N3RM
designator C?
Subminiature, Leaded Solid Tantalum Capacitor: Radial-Lead, Non-Polarised, 3.3uF, 20% Tolerance, 3 WVDC @ +85°C; Note: See Data Sheet for full range of components; Published: 19-Mar-2004; DatasheetDocument: 13-Jun-2002; PackageReference: HA-N3; Publisher: Altium Limited; ComponentLink1Description: Manufacturer Link; ComponentLink1URL: http://www.vishay.com/; ComponentLink2Description: Datasheet; ComponentLink2URL: http://www.vishay.com/docs/43003/ha.pdf; Value: 3.3uF
footprint HA-N3 (Capacitor, Radial, Tantalum, Non-Polarised; Body 3.56 x 2.03 x 5.08 mm (WxTxH max); Pin Spacing 2.54 mm (typ))
simulation model CAP (Capacitor)
signal-integrity model HA3.3-3N3RM
pins: 1, 2

## HA3.3-4C5RM
designator C?
Subminiature, Leaded Solid Tantalum Capacitor: Radial-Lead, Polarised, 3.3uF, 20% Tolerance, 4 WVDC @ +85°C; Note: See Data Sheet for full range of components; Published: 19-Mar-2004; DatasheetDocument: 13-Jun-2002; PackageReference: HA-C5; Publisher: Altium Limited; ComponentLink1Description: Manufacturer Link; ComponentLink1URL: http://www.vishay.com/; ComponentLink2Description: Datasheet; ComponentLink2URL: http://www.vishay.com/docs/43003/ha.pdf; Value: 3.3uF
footprint HA-C5 (Capacitor, Radial, Tantalum; Body 1.96 x 4.06 mm (Dia.xH max); Pin Spacing 1.27 mm (typ))
simulation model CAP (Capacitor)
signal-integrity model HA3.3-4C5AM
pins: 1, 2
1 alternate drawing of the same symbol

## HA4.7-4C6RM
designator C?
Subminiature, Leaded Solid Tantalum Capacitor: Radial-Lead, Polarised, 4.7uF, 20% Tolerance, 4 WVDC @ +85°C; Note: See Data Sheet for full range of components; Published: 19-Mar-2004; DatasheetDocument: 13-Jun-2002; PackageReference: HA-C6; Publisher: Altium Limited; ComponentLink1Description: Manufacturer Link; ComponentLink1URL: http://www.vishay.com/; ComponentLink2Description: Datasheet; ComponentLink2URL: http://www.vishay.com/docs/43003/ha.pdf; Value: 4.7uF
footprint HA-C6 (Capacitor, Radial, Tantalum; Body 1.96 x 4.83 mm (Dia.xH max); Pin Spacing 1.27 mm (typ))
simulation model CAP (Capacitor)
signal-integrity model HA4.7-4C6RM
pins: 1, 2
1 alternate drawing of the same symbol

## HA6.8-3N4RM
designator C?
Subminiature, Leaded Solid Tantalum Capacitor: Radial-Lead, Non-Polarised, 6.8uF, 20% Tolerance, 3 WVDC @ +85°C; Note: See Data Sheet for full range of components; Published: 19-Mar-2004; DatasheetDocument: 13-Jun-2002; PackageReference: HA-N4; Publisher: Altium Limited; ComponentLink1Description: Manufacturer Link; ComponentLink1URL: http://www.vishay.com/; ComponentLink2Description: Datasheet; ComponentLink2URL: http://www.vishay.com/docs/43003/ha.pdf; Value: 6.8uF
footprint HA-N4 (Capacitor, Radial, Tantalum, Non-Polarised; Body 4.83 x 2.67 x 5.97 mm (WxTxH max); Pin Spacing 3.18 mm (typ))
simulation model CAP (Capacitor)
signal-integrity model HA6.8-3N4AM
pins: 1, 2

## HA6.8-4C7RM
designator C?
Subminiature, Leaded Solid Tantalum Capacitor: Radial-Lead, Polarised, 6.8uF, 20% Tolerance, 4 WVDC @ +85°C; Note: See Data Sheet for full range of components; Published: 19-Mar-2004; DatasheetDocument: 13-Jun-2002; PackageReference: HA-C7; Publisher: Altium Limited; ComponentLink1Description: Manufacturer Link; ComponentLink1URL: http://www.vishay.com/; ComponentLink2Description: Datasheet; ComponentLink2URL: http://www.vishay.com/docs/43003/ha.pdf; Value: 6.8uF
footprint HA-C7 (Capacitor, Radial, Tantalum; Body 2.03 x 5.08 mm (Dia.xH max); Pin Spacing 1.27 mm (typ))
simulation model CAP (Capacitor)
signal-integrity model HA6.8-4C7AM
pins: 1, 2
1 alternate drawing of the same symbol

## HA10-4C8RM
designator C?
Subminiature, Leaded Solid Tantalum Capacitor: Radial-Lead, Polarised, 10uF, 20% Tolerance, 4 WVDC @ +85°C; Note: See Data Sheet for full range of components; Published: 19-Mar-2004; DatasheetDocument: 13-Jun-2002; PackageReference: HA-C8; Publisher: Altium Limited; ComponentLink1Description: Manufacturer Link; ComponentLink1URL: http://www.vishay.com/; ComponentLink2Description: Datasheet; ComponentLink2URL: http://www.vishay.com/docs/43003/ha.pdf; Value: 10uF
footprint HA-C8 (Capacitor, Radial, Tantalum; Body 2.54 x 5.72 mm (Dia.xH max); Pin Spacing 1.78 mm (typ))
simulation model CAP (Capacitor)
signal-integrity model HA10-4C8RM
pins: 1, 2
1 alternate drawing of the same symbol

## HA22-3N5RM
designator C?
Subminiature, Leaded Solid Tantalum Capacitor: Radial-Lead, Non-Polarised, 22uF, 20% Tolerance, 3 WVDC @ +85°C; Note: See Data Sheet for full range of components; Published: 19-Mar-2004; DatasheetDocument: 13-Jun-2002; PackageReference: HA-N5; Publisher: Altium Limited; ComponentLink1Description: Manufacturer Link; ComponentLink1URL: http://www.vishay.com/; ComponentLink2Description: Datasheet; ComponentLink2URL: http://www.vishay.com/docs/43003/ha.pdf; Value: 22uF
footprint HA-N5 (Capacitor, Radial, Tantalum, Non-Polarised; Body 7.37 x 3.94 x 6.86 mm (WxTxH max); Pin Spacing 5.08 mm (typ))
simulation model CAP (Capacitor)
signal-integrity model HA22-3N5RM
pins: 1, 2

## HA33-4C9RM
designator C?
Subminiature, Leaded Solid Tantalum Capacitor: Radial-Lead, Polarised, 33uF, 20% Tolerance, 4 WVDC @ +85°C; Note: See Data Sheet for full range of components; Published: 19-Mar-2004; DatasheetDocument: 13-Jun-2002; PackageReference: HA-C9; Publisher: Altium Limited; ComponentLink1Description: Manufacturer Link; ComponentLink1URL: http://www.vishay.com/; ComponentLink2Description: Datasheet; ComponentLink2URL: http://www.vishay.com/docs/43003/ha.pdf; Value: 33uF
footprint HA-C9 (Capacitor, Radial, Tantalum; Body 3.81 x 6.35 mm (Dia.xH max); Pin Spacing 3.05 mm (typ))
simulation model CAP (Capacitor)
signal-integrity model HA33-4C9AM
pins: 1, 2
1 alternate drawing of the same symbol

## HA.33-4C0RM
designator C?
Subminiature, Leaded Solid Tantalum Capacitor: Radial-Lead, Polarised, 0.33uF, 20% Tolerance, 4 WVDC @ +85°C; Note: See Data Sheet for full range of components; Published: 19-Mar-2004; DatasheetDocument: 13-Jun-2002; PackageReference: HA-C0; Publisher: Altium Limited; ComponentLink1Description: Manufacturer Link; ComponentLink1URL: http://www.vishay.com/; ComponentLink2Description: Datasheet; ComponentLink2URL: http://www.vishay.com/docs/43003/ha.pdf; Value: 0.33uF
footprint HA-C0 (Capacitor, Radial, Tantalum; Body 1.45 x 2.54 mm (Dia.xH max); Pin Spacing 0.76 mm (typ))
simulation model CAP (Capacitor)
signal-integrity model HA.33-4C0RM
pins: 1, 2
1 alternate drawing of the same symbol

## HA.68-3N1RM
designator C?
Subminiature, Leaded Solid Tantalum Capacitor: Radial-Lead, Non-Polarised, 0.68uF, 20% Tolerance, 3 WVDC @ +85°C; Note: See Data Sheet for full range of components; Published: 19-Mar-2004; DatasheetDocument: 13-Jun-2002; PackageReference: HA-N1; Publisher: Altium Limited; ComponentLink1Description: Manufacturer Link; ComponentLink1URL: http://www.vishay.com/; ComponentLink2Description: Datasheet; ComponentLink2URL: http://www.vishay.com/docs/43003/ha.pdf; Value: 0.68uF
footprint HA-N1 (Capacitor, Radial, Tantalum, Non-Polarised; Body 3.05 x 1.78 x 3.43 mm (WxTxH max); Pin Spacing 2.54 mm (typ))
simulation model CAP (Capacitor)
signal-integrity model HA.68-3N1RM
pins: 1, 2